# Altium schematic symbol library BBCMP-P32-M1600X850.A1.Schlib: 1 symbol
Pins are listed as number, name and electrical type; pins without a type are passive.

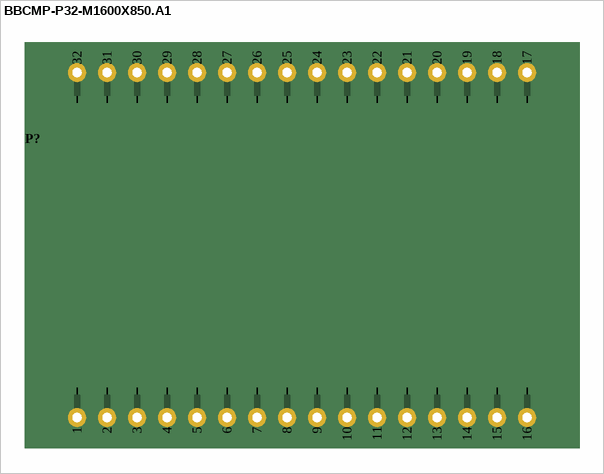
[diagram p0: symbol BBCMP-P32-M1600X850.A1]

## BBCMP-P32-M1600X850.A1
designator P?, comment BBCMP-P32-M1600X850  (value not drawn)
BreadBoard component, 2x16, 1600x850 mil
pins: 1, 2, 3, 4, 5, 6, 7, 8, 9, 10, 11, 12, 13, 14, 15, 16, 17, 18, 19, 20, 21, 22, 23, 24, 25, 26, 27, 28, 29, 30, 31, 32